# Altium schematic symbol library 26013144.SchLib: 2 symbols
Pins are listed as number, name and electrical type; pins without a type are passive.

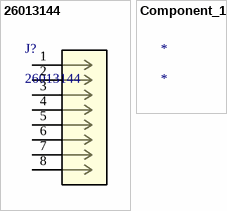
[diagram p0: symbols 26013144 to Component_1]

## 26013144
designator J?
No Description Available; Mfr_Name: Molex Connector Corporation; Copyright: Copyright (C) 2021 Ultra Librarian. All rights reserved.; Manufacturer_Part_Number: 26013144; RefDes: RefDes; Type: DEV
footprint CON_26013144
pins: 1, 2, 3, 4, 5, 6, 7, 8

## Component_1
designator *